# EAGLE library part 2092-1430 (library con-wago_5.0 mm)
Serie 2092, Stiftleiste mit abgewinkelten Lötstiften 10-polig / Series 2092, Male header with angled solder pins 10-pole Polzahl / Pole No.: 10 Rastermaß / Pitch: 5 mm Bemessungsspannung / Rated Voltage: 320 V Nennstrom / Nominal Current: 16 A Lötstiftlänge: / Solder Pin Length: 3.6 mm Farbe / Color: lichtgrau / light gray Stand: 01.01.2013. Die jeweils aktuellen Daten zu diesem Artikel finden Sie in unserem Produktkatalog, den Sie unter www.wago.com einsehen können. As of: 01/01/2013. Please find the newest data for this article in our product catalogue, which can be viewed under www.wago.com.
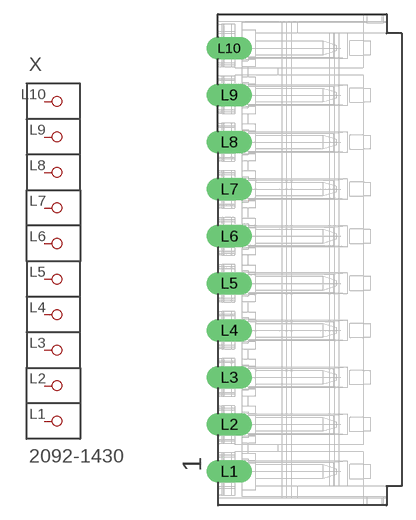
[diagram p12: symbol with the pads of P-2092-1430; footprint P-2092-1430]

Designator prefix X

## 2092-1430  [P-2092-1430]
L1  P1
L2  P2
L3  P3
L4  P4
L5  P5
L6  P6
L7  P7
L8  P8
L9  P9
L10  P10

## Footprint P-2092-1430 (pad centres in mm)
drill 1.6 pad 2 long: L1 -8.55,-22.5; L2 -8.55,-17.5; L3 -8.55,-12.5; L4 -8.55,-7.5; L5 -8.55,-2.5; L6 -8.55,2.5; L7 -8.55,7.5; L8 -8.55,12.5; L9 -8.55,17.5; L10 -8.55,22.5